# Altium schematic symbol library ZPWL.SchLib: 160 symbols (part 2 of 2)
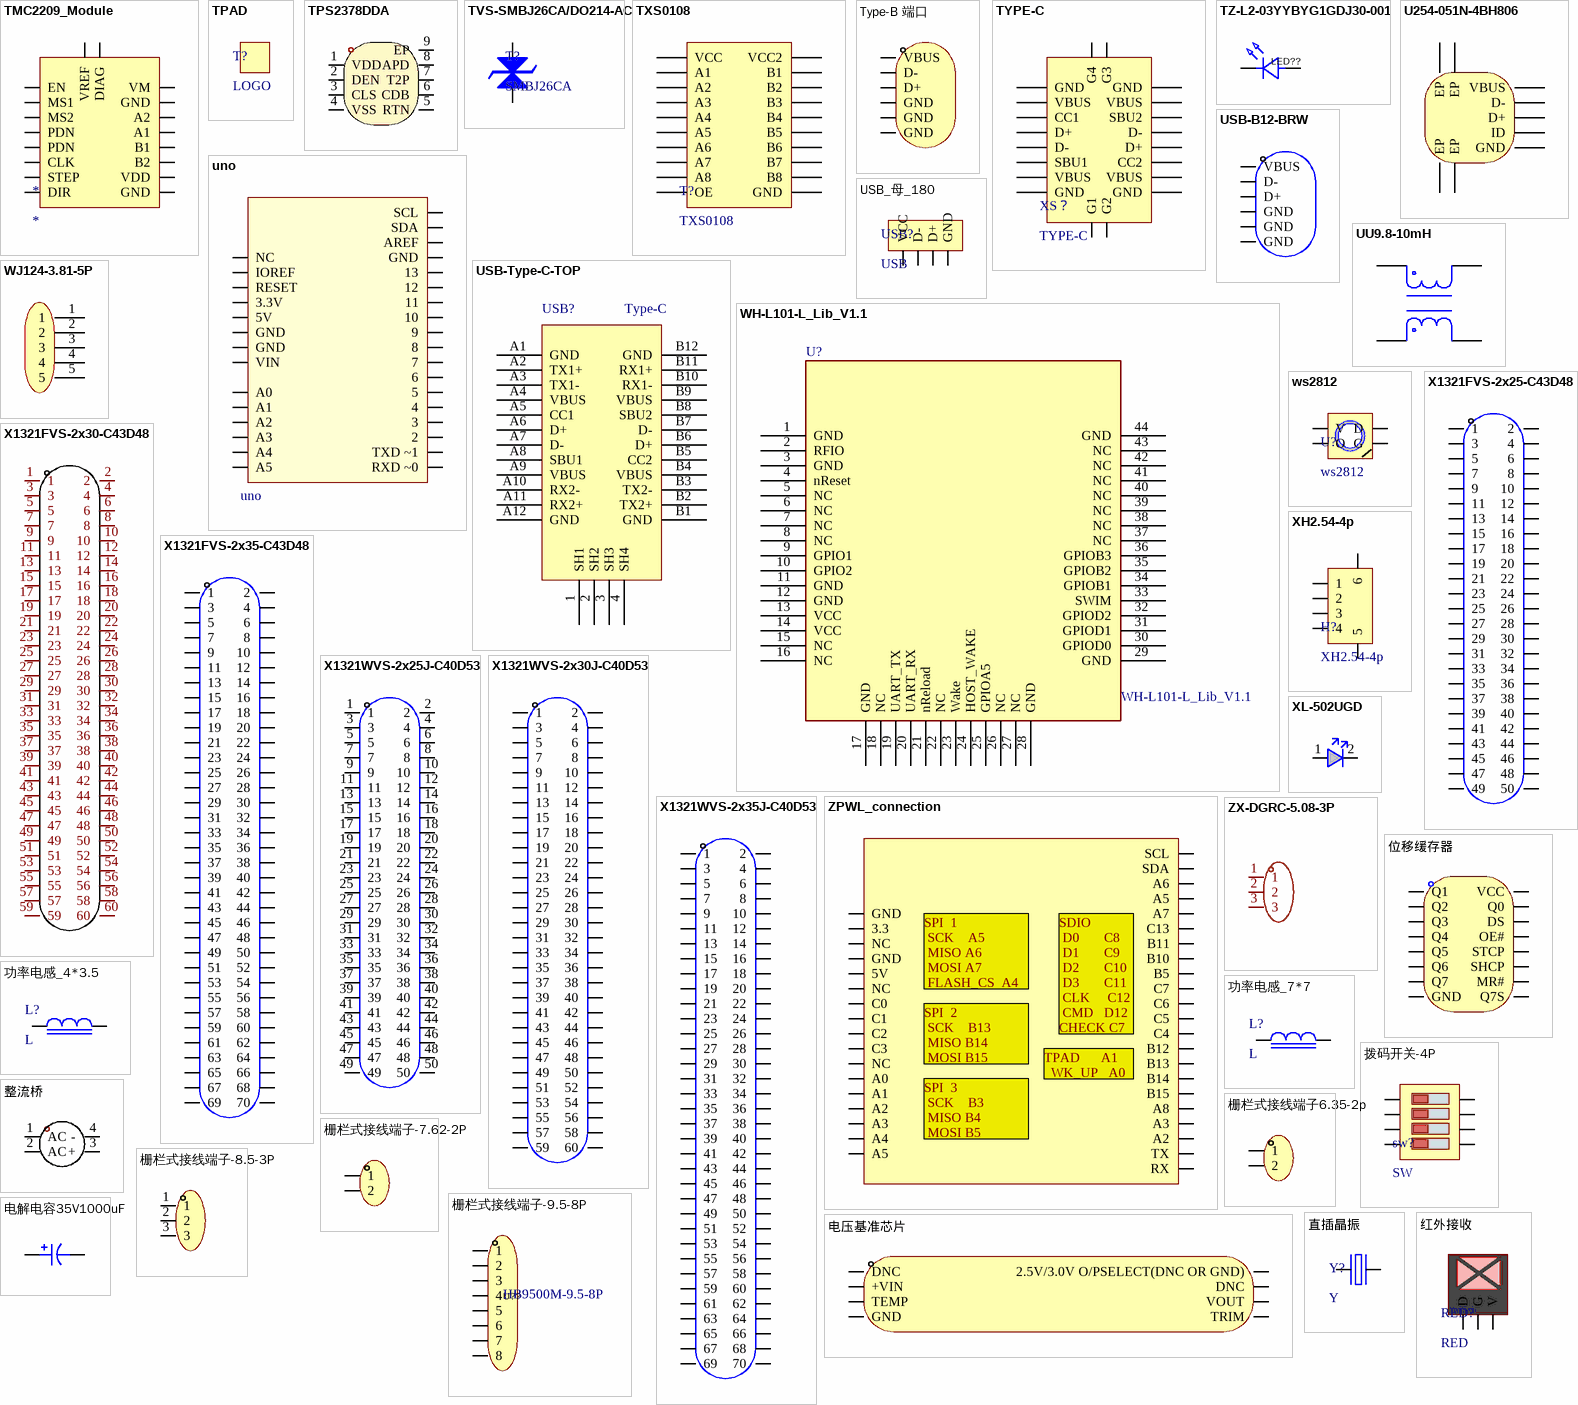
[diagram p5: symbols TMC2209_Module to 红外接收]

## X1321WVS-2x30J-C40D53
designator H?  (value not drawn)
双排针 60P 间距：1.27mm 2x30P 安装类型：立贴 圆针/方针：方针 额定电流：1A 额定电压：250V; Manufacturer: XKB Connectivity(中国星坤); Add into BOM: yes; Pitch: 1.27mm; Circluar Pins/Square Pins: 方针; Current Rating (Max): 1A; Voltage Rating (Max): 250V; Welding Temperature (Max): 260℃; Name: X1321WVS-2x30J-C40D53; Symbol: X1321WVS-2X30J-C40D53; Device: X1321WVS-2x30J-C40D53; LCSC Part Name: 1.27mm 2x30P 立贴 方针; Supplier Part: C2881935; Manufacturer Part: X1321WVS-2x30J-C40D53; Supplier Footprint: SMD,P=1.27mm; JLCPCB Part Class: Extended Part; Supplier: LCSC; Convert to PCB: yes; Number of Rows: 双排; Number of Pins: 60; Pin Structure: 2x30P; Row Spacing: -; Mounting Type: 立贴; Length of Mating Pin: 4mm; Insulation Height: 1mm; Length of End Connection Pin: -; Contact Material: 黄铜; Contact Plating: 金; Operating Temperature Range: -40℃~+105℃; Color: 黑色; link: https://atta.szlcsc.com/upload/public/pdf/source/20211011/053ED0B5930C4705FD984F451B971973.pdf
footprint HDR-SMD_60P-P1.27-V-M-R2-C30-S1.27-LS4.8
pins: 1, 2, 3, 4, 5, 6, 7, 8, 9, 10, 11, 12, 13, 14, 15, 16, 17, 18, 19, 20, 21, 22, 23, 24, 25, 26, 27, 28, 29, 30, 31, 32, 33, 34, 35, 36, 37, 38, 39, 40, 41, 42, 43, 44, 45, 46, 47, 48, 49, 50, 51, 52, 53, 54, 55, 56, 57, 58, 59, 60

## X1321WVS-2x35J-C40D53
designator U?  (value not drawn)
双排针 70P 间距：1.27mm 2x35P 立贴 圆针/方针：方针 额定电流：1A 额定电压：250V; Manufacturer: XKB Connectivity(中国星坤); Add into BOM: yes; Pitch: 1.27mm; Circluar Pins/Square Pins: 方针; Current Rating (Max): 1A; Voltage Rating (Max): 250V; Welding Temperature (Max): 260℃; Name: X1321WVS-2x35J-C40D53; Symbol: X1321WVS-2X35J-C40D53; Device: X1321WVS-2x35J-C40D53; LCSC Part Name: 1.27mm 2x35P 立贴 方针; Supplier Part: C2881940; Manufacturer Part: X1321WVS-2x35J-C40D53; Supplier Footprint: SMD,P=1.27mm; JLCPCB Part Class: Extended Part; Datasheet: https://atta.szlcsc.com/upload/public/pdf/source/20211011/053ED0B5930C4705FD984F451B971973.pdf; Supplier: LCSC; Convert to PCB: yes; Number of Rows: 双排; Number of Pins: 70P; Pin Structure: 2x35P; Row Spacing: -; Mounting Type: 立贴; Length of Mating Pin: 4mm; Insulation Height: 1mm; Length of End Connection Pin: -; Contact Material: 黄铜; Contact Plating: 金; Operating Temperature Range: -40℃~+105℃; Color: 黑色
footprint HDR-SMD_70P-P1.27-V-M-R2-C35-LS6.3
pins: 1, 2, 3, 4, 5, 6, 7, 8, 9, 10, 11, 12, 13, 14, 15, 16, 17, 18, 19, 20, 21, 22, 23, 24, 25, 26, 27, 28, 29, 30, 31, 32, 33, 34, 35, 36, 37, 38, 39, 40, 41, 42, 43, 44, 45, 46, 47, 48, 49, 50, 51, 52, 53, 54, 55, 56, 57, 58, 59, 60, 61, 62, 63, 64, 65, 66, 67, 68, 69, 70

## XH2.54-4p
designator H?
footprint CONN-SMD_4P-P2.54
pins: 1, 2, 3, 4, 5, 6

## XL-502UGD
designator U?  (value not drawn)
LED 3.5mm 绿色; Manufacturer: XINGLIGHT(成兴光); Add into BOM: yes; Lamp Holder Type: 5mm圆形灯头; Emitted Color: 翠绿色; Forward Voltage (VF): 3V; Power Dissipation: 70mW; Forward Current: 20mA; Dominant Wavelength: 520nm~530nm; Peak Wavelength: 520nm; Lens Color: 绿色透镜; Luminous Intensity: 12000mcd; Viewing Angle: 50°; Symbol: XL-502UGD; Device: XL-502UGD; LCSC Part Name: XL-502UGD; Supplier Part: C2895548; Manufacturer Part: XL-502UGD; Supplier Footprint: 插件,D=5mm; JLCPCB Part Class: Extended Part; Datasheet: https://atta.szlcsc.com/upload/public/pdf/source/20240112/069024ED60A10A0E09F0F24A9490946D.pdf; Supplier: LCSC; Convert to PCB: yes; Color Temperature: -; Mounting Sytle: -; Operating Temperature: -25℃~+85℃
footprint LED-TH_BD5.9-P2.54-RD_GREEN
pins: 1 2, 2 3

## ZPWL_connection
designator U?  (value not drawn)
footprint ZPWL_connection
pins: 1 GND, 2 3.3, 3 NC, 4 GND, 5 5V, 6 NC, 7 C0, 8 C1, 9 C2, 10 C3, 11 NC, 12 A0, 13 A1, 14 A2, 15 A3, 16 A4, 17 A5, 18 RX, 19 TX, 20 A2, 21 A3, 22 A8, 23 B15, 24 B14, 25 B13, 26 B12, 27 C4, 28 C5, 29 C6, 30 C7, 31 B5, 32 B10, 33 B11, 34 C13, 35 A7, 36 A5, 37 A6, 38 SDA, 39 SCL
text: SPI  1 / SCK    A5 / MISO A6 / MOSI A7 / FLASH_CS  A4; SDIO / D0       C8 / D1       C9 / D2       C10 / D3       C11 / CLK     C12 / CMD   D12 / CHECK C7; SPI  2 / SCK    B13 / MISO B14 / MOSI B15; TPAD      A1 / WK_UP   A0; SPI  3 / SCK    B3 / MISO B4 / MOSI B5

## ZX-DGRC-5.08-3P
designator CN?
Symbol: ZX-DGRC-5.08-3P
footprint CONN-TH_3P-P5.08_MEGASTAR_ZX-DGRC-5.08-3P
pins: 1, 2, 3

## 位移缓存器
designator U??, comment 74HC595D,118  (value not drawn)
三态输出 串行至串行或并行移位寄存器2V~6V 型号中的数字; Manufacturer: Nexperia(安世); Add into BOM: yes; Number of Bits per Element: 8; Output Type: 三态; Function: 串行至并行或串行; Supply Voltage: 2V~6V; Name: 74HC595D,118; Symbol: 74HC595D,118; Device: 74HC595D,118; LCSC Part Name: 三态输出 串行至串行或并行移位寄存器; Supplier Part: C5947; Manufacturer Part: 74HC595D,118; Supplier Footprint: SOP-16; JLCPCB Part Class: Basic Part; Datasheet: https://atta.szlcsc.com/upload/public/pdf/source/20140108/1457706668762.pdf; Supplier: LCSC; Convert to PCB: yes; Series: 74HC; Operating Temperature: 40℃~+125℃
footprint SOIC-16_L9.9-W3.9-P1.27-LS6.0-BL
3D model SOIC-16_L9.9-W3.9-H1.8-LS6.0-P1.27
pins: 1 Q1, 2 Q2, 3 Q3, 4 Q4, 5 Q5, 6 Q6, 7 Q7, 8 GND, 9 Q7S, 10 MR#, 11 SHCP, 12 STCP, 13 OE#, 14 DS, 15 Q0, 16 VCC

## 功率电感_4*3.5
designator L?, comment L
footprint 电感
pins: 1, 2

## 功率电感_7*7
designator L?, comment L
footprint 7*7 L
pins: 1, 2

## 拨码开关-4P
designator sw?, comment SW
拨码开关-4P
footprint sw-4P
footprint DSHP04TSGER (贴片拨码)
pins: 1, 2, 3, 4, 5, 6, 7, 8

## 整流桥
designator D?, comment MB10S_C42463381  (value not drawn)
特性：适用于印刷电路板。 体积小，安装简单。 浪涌电流能力高。 采用模塑塑料技术，结构可靠，成本低。 保证高温焊接：在5lbs.（2.3kg）张力下260℃持续10秒。应用：通用单相桥式整流器应用; Symbol: MB10S_C42463381; Supplier Part: C42463381
footprint MBS_L4.7-W4.0-P2.50-LS7.0-TL
pins: 1 AC, 2 AC, 3 +, 4 -

## 栅栏式接线端子6.35-2p
designator U??, comment JL635-63502B01  (value not drawn)
6.35mm 1x2P; Manufacturer: JILN(锦凌); Add into BOM: yes; Barrier Type: 三面; Number of PINs Per Row: 2; Pin Location: 边脚; Current Rating (Max): 20A; Voltage Rating (Max): 300V; Wire Gauge - AWG: 16~22; Name: JL635-63502B01; Symbol: JL635-63502B01; Device: JL635-63502B01; LCSC Part Name: 6.35mm 1x2P 每排P数:2 排数:1 直针 边脚; Supplier Part: C409150; Manufacturer Part: JL635-63502B01; Supplier Footprint: 插件,P=6.35mm; JLCPCB Part Class: Extended Part; Datasheet: https://atta.szlcsc.com/upload/public/pdf/source/20190822/C409150_B282659771C8BCFCDCE5970BAD47B82D.pdf; Supplier: LCSC; Convert to PCB: yes; Pitch: 6.35mm; Structure: 1x2P; Number of Rows: 1; Mounting Style: 直针; Wire Gauge - mm2: -; Operating Temperature Range: -40℃~+105℃; Color: 黑色
footprint CONN-TH_JL635-63502B01
3D model CONN-TH_JL635-63502B01
pins: 1, 2

## 栅栏式接线端子-7.62-2P
designator U??, comment KF7.62-2P  (value not drawn)
7.62mm  1x2P; Manufacturer: KEFA(科发); Add into BOM: yes; Barrier Type: 两面; Number of PINs Per Row: 2; Pin Location: 边脚; Current Rating (Max): 24A; Voltage Rating (Max): 450V; Wire Gauge - AWG: 12~22; Wire Gauge - mm?: 2.5; Name: KF7.62-2P; Symbol: KF7.62-2P; Device: KF7.62-2P; LCSC Part Name: 7.62mm 每排P数:2 排数:1 直针 边脚 黑色; Supplier Part: C707824; Manufacturer Part: KF7.62-2P; Supplier Footprint: 直插,P=7.62mm; JLCPCB Part Class: Extended Part; Datasheet: https://atta.szlcsc.com/upload/public/pdf/source/20200911/C707824_085D20F539EB43FE255F4A82729CD447.pdf; Supplier: LCSC; Convert to PCB: yes; Pitch: 7.62mm; Number of Rows: 1; Mounting Style: 直针; Operating Temperature Range: -40℃~+105℃; Color: 黑色
footprint CONN-TH_KF7.62-2P
pins: 1, 2

## 栅栏式接线端子-8.5-3P
designator U??, comment KF8500-8.5-3P  (value not drawn)
8.5mm 1x3P  24A  450V 线规 - AWG：12~22 线规 - mm2：2.5; Manufacturer: KEFA(科发); Add into BOM: yes; Barrier Type: 两面; Number of PINs Per Row: 3; Pin Location: 边脚; Wire Gauge - AWG: 12~22; Wire Gauge - mm2: 2.5; Name: KF8500-8.5-3P; Symbol: KF8500-8.5-3P; Device: KF8500-8.5-3P; LCSC Part Name: 8.5mm 1x3P 每排P数:3 排数:1 直针 边脚; Supplier Part: C707834; Manufacturer Part: KF8500-8.5-3P; Supplier Footprint: 插件,P=8.5mm; JLCPCB Part Class: Extended Part; Datasheet: https://atta.szlcsc.com/upload/public/pdf/source/20230331/38F39BA915725C9159B9A169281B3E59.pdf; Supplier: LCSC; Convert to PCB: yes; Pitch: 8.5mm; Structure: 1x3P; Number of Rows: 1; Mounting Style: 直针; Current Rating (Max): 24A; Voltage Rating (Max): 450V; Operating Temperature Range: -40℃~+105℃; Color: 黑色
footprint CONN-TH_KF8500-8.5-3P
3D model CONN-TH_KF8500-8.5-3P
pins: 1, 2, 3

## 栅栏式接线端子-9.5-8P
designator U??, comment HB9500M-9.5-8P
9.5mm 1x8P  32A 750V 线规 - AWG：12~22 线规 - mm2：4 工作温度范围：-40℃~+105℃ 颜色：黑色; Manufacturer: KANGNEX(康奈克斯电气); Add into BOM: yes; Barrier Type: 带盖板; Number of PINs Per Row: 8; Pin Location: 边脚; Wire Gauge - AWG: 12~22; Wire Gauge - mm2: 4; Name: HB9500M-9.5-8P; Symbol: HB9500M-9.5-8P; Device: HB9500M-9.5-8P; LCSC Part Name: 9.5mm 1x8P 每排P数:8 排数:1 直针 边脚; Supplier Part: C315245; Manufacturer Part: HB9500M-9.5-8P; Supplier Footprint: 插件,P=9.5mm; JLCPCB Part Class: Extended Part; Datasheet: https://atta.szlcsc.com/upload/public/pdf/source/20191225/C315245_3594694ED82A6269F262C04DBCBCBE80.pdf; Supplier: LCSC; Convert to PCB: yes; Pitch: 9.5mm; Structure: 1x8P; Number of Rows: 1; Mounting Style: 直针; Current Rating (Max): 32A; Voltage Rating (Max): 750V; Operating Temperature Range: -40℃~+105℃; Color: 黑色
footprint CONN-TH_HB9500M-9.5-8P
3D model CONN-TH_HB9500M-9.5-8P
pins: 1, 2, 3, 4, 5, 6, 7, 8

## 电压基准芯片
designator U??, comment AD780ARZ  (value not drawn)
可编程 输入：4V~36V 输出：2.5V；3V 输出电流：10mA 精度：±0.2%；±0.17%; Manufacturer: ADI(亚德诺)/LINEAR(凌特); Symbol: AD780ARZ_C578527; Add into BOM: yes; Reference Type: 串联；并联; Output Type: 可调; Input Voltage: 4V~36V; Output Current: 10mA; Temperature Coefficient: 7ppm/℃; Supply Current: 1mA; Noise - 1/10Hz to 10Hz: 4uVp-p; Name: AD780ARZ; Device: AD780ARZ; LCSC Part Name: 串联 并联 10mA; Supplier Part: C578527; Manufacturer Part: AD780ARZ; Supplier Footprint: SOIC-8; JLCPCB Part Class: Extended Part; Datasheet: https://atta.szlcsc.com/upload/public/pdf/source/20191127/C459887_A064405C3B9E940C4831E9513F2D439D.pdf; Supplier: LCSC; Convert to PCB: yes; Tolerance: ±0.2%；±0.17%; Noise - 10Hz to 10kHz: -; Operating Temperature: -40℃~+85℃@(Ta)
footprint SOIC-8_L4.9-W3.9-P1.27-LS6.0-BL
3D model SOIC-8_L4.9-W3.9-H1.7-LS6.0-P1.27
pins: 1 DNC, 2 +VIN, 3 TEMP, 4 GND, 5 TRIM, 6 VOUT, 7 DNC, 8 2.5V/3.0V O/PSELECT(DNC OR GND)

## 电解电容35V1000uF
designator C?, comment PH35V1000M10X17  (value not drawn)
M10X17  特性：高温品。125°C可耐受2000 5000小时; Symbol: PH35V1000M10X17; Supplier Part: C49232884
footprint CAP-TH_BD10.0-P5.00-D1.0-FD
pins: 1, 2

## 直插晶振
designator Y?, comment Y
footprint 晶振
pins: 1, 2

## 红外接收
designator RED?, comment RED
footprint 3_PIN
pins: 1 D, 2 G, 3 V

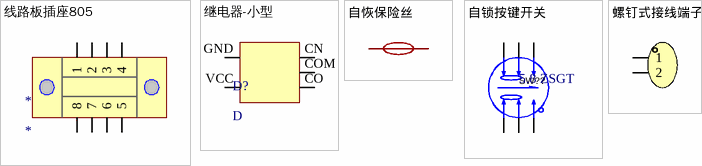
[diagram p4: symbols 线路板插座805 to 螺钉式接线端子]

## 线路板插座805
designator *
footprint GOLD_Finger
footprint 线路板插座805 (Pin8)
pins: 1 4, 2 3, 3 2, 4 1, A 5, B 6, C 7, D 8

## 继电器-小型
designator D?, comment D
footprint 继电器
pins: CN, CO, COM, GND, VCC

## 自恢保险丝
designator F?, comment SMD1812-150-33  (value not drawn)
特性：I Hold: 0.1 ~ 3.5A。快速响应故障电流。尺寸1812 / 4.5×3.2mm。低电阻。低剖面。RoHS合规、无铅、无卤。应用：USB集线器、端口和外围设备。计算机、手机、多媒体; Symbol: SMD1812-150-33; Supplier Part: C46641162
footprint F1812
pins: 1, 2

## 自锁按键开关
designator SW??, comment 5.8 ZSGT
30V 双刀双掷 直插 自锁 泡泡机开关; Manufacturer: SHOU HAN(首韩); Add into BOM: yes; Contact Current: 110mA; Insulation Resistance: 100MΩ; Actuator Style: 方形按钮; Actuator/Cap Color: 白色; With Lamp: 无; Pin Style: PC引脚; Operating Force: 150gf@±50gf; Mechanical Life: 100000; Name: 5.8 ZSGT; Symbol: 5.8 ZSGT; Device: 5.8 ZSGT; LCSC Part Name: 5.8*5.8有头/高头 带锁/自锁开关 泡泡机开关; Supplier Part: C2681587; Manufacturer Part: 5.8 ZSGT; Supplier Footprint: 插件; JLCPCB Part Class: Extended Part; Datasheet: https://atta.szlcsc.com/upload/public/pdf/source/20210107/C2681587_CDDDDA4A1C7AC9FEB01815B75893A6BA.pdf; Supplier: LCSC; Convert to PCB: yes; Voltage Rating (DC): 30V; Circuit: 双刀双掷; Mounting Style: 直插; Self Lock / No Lock: 自锁; Operating Temperature: -10℃~+70℃
footprint SW-TH_5.8ZSGT
pins: 1, 2, 3, 4, 5, 6

## 螺钉式接线端子
designator U??, comment DB301V-5.0-2P-BU-S  (value not drawn)
1x2P 蓝色; Manufacturer: DIBO(地博电气); Add into BOM: yes; Pitch: 5mm; Number of PINs Per Row: 2; Current Rating (Max): 17.5A; Voltage Rating (Max): 250V; Wire Gauge - AWG: 14~22; Wire Gauge - mm?: 1.5; Name: DB301V-5.0-2P-BU-S; Symbol: DB301V-5.0-2P; Device: DB301V-5.0-2P-BU-S; LCSC Part Name: 5mm 排数:1 每排P数:2 直针; Supplier Part: C395882; Manufacturer Part: DB301V-5.0-2P-BU-S; Supplier Footprint: 直插,P=5mm; JLCPCB Part Class: Extended Part; Datasheet: https://atta.szlcsc.com/upload/public/pdf/source/20190611/C395882_ED63B395F1E42B2C84D8982756FF4727.pdf; Supplier: LCSC; Convert to PCB: yes; Number of Rows: 1; Mounting Style: 直针; Operating Temperature Range: -40℃~+120℃; Color: 蓝色
footprint CONN-TH_2P-P5.00_L7.6-W10.0
3D model CONN-TH_DB5.00-LI-2P-301
pins: 1, 2